# EAGLE library part CAY16-221J4AS (library BitsyExpander_v3.0_M4)
Resistor Networks & Arrays 220 OHMS 5% CONV 4RES Anti-Sulfur Source: Datasheet <https://www.bourns.com/docs/Product-Datasheets/CATCAY.pdf>
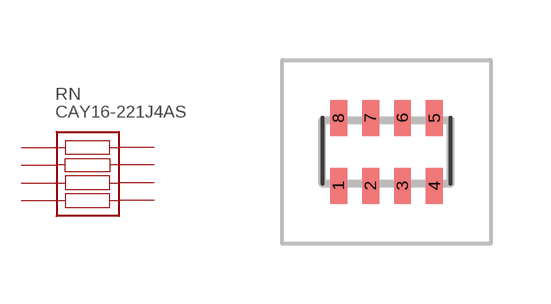
[diagram p3: symbol with the pads of CAY1647R0F4LF; footprint CAY1647R0F4LF]

Designator prefix RN

## CAY16-221J4AS (DESCRIPTION: Resistor Networks & Arrays 220 OHMS 5% CONV 4RES Anti-Sulfur; HEIGHT: 0.6mm; MANUFACTURER_NAME: Bourns; MANUFACTURER_PART_NUMBER: CAY16-221J4AS; MOUSER_PART_NUMBER: 652-CAY16-221J4AS; MOUSER_PRICE-STOCK: https://www.mouser.co.uk/ProductDetail/Bourns/CAY16-221J4AS?qs=5aG0NVq1C4yxlynUNdj32A%3D%3D)  [CAY1647R0F4LF]
1  R1_1
2  R2_1
3  R3_1
4  R4_1
5  R4_2
6  R3_2
7  R2_2
8  R1_2

## Footprint CAY1647R0F4LF (pad centres in mm)
CAY16-47R0F4LF-1
smd 0.425 x 0.9: 1 -1.2,-0.85; 2 -0.4,-0.85; 3 0.4,-0.85; 4 1.2,-0.85; 5 1.2,0.85; 6 0.4,0.85; 7 -0.4,0.85; 8 -1.2,0.85